# Altium integrated library capactitive_interface_sensors_and_ics.IntLib: 3 symbols
Pins are listed as number, name and electrical type; pins without a type are passive.

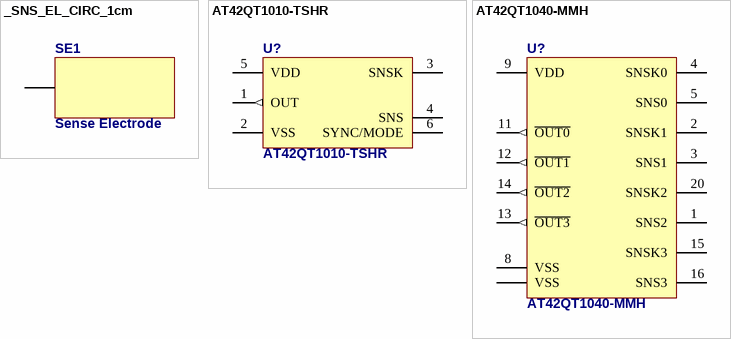
[diagram p0: symbols _SNS_EL_CIRC_1cm to AT42QT1040-MMH]

## _SNS_EL_CIRC_1cm
designator SE1, comment Sense Electrode  (no BOM)
Circular (1cm Diameter) Sense Electrode
footprint SNS_EL_CIRC_1cm (Sense Electrode, Circle, 1cm Diameter)
pins: 1 SE

## AT42QT1010-TSHR
designator U?
Atmel Single-key QTouch Touch Sensor IC; Supplier 1: Farnell; Supplier 2: Farnell; Supplier 3: TME; Supplier Part Number 1: 1841593RL; Supplier Part Number 2: 1841593; Supplier Part Number 3: AT42QT1010-TSHR
footprint SOT-23-6 (, AKA: SOT753 (NXP), TSOP5 (NXP))
pins: 1 OUT (out), 2 VSS, 3 SNSK, 4 SNS, 5 VDD, 6 SYNC/MODE

## AT42QT1040-MMH
designator U?
Four-key QTouch® Touch Sensor IC; Value: ???
footprint QFN20_PITCH_0_45MM (QFN; 20 Leads; Body 3 x 3 mm; Pitch 0.45 mm)
pins: 0 VSS (power), 1 SNS2, 2 SNSK1, 3 SNS1, 4 SNSK0, 5 SNS0, 6 NC hidden, 7 NC hidden, 8 VSS (power), 9 VDD (power), 10 NC hidden, 11 ~{OUT0} (out), 12 ~{OUT1} (out), 13 ~{OUT3} (out), 14 ~{OUT2} (out), 15 SNSK3, 16 SNS3, 17 NC hidden, 18 NC hidden, 19 NC hidden, 20 SNSK2